# EAGLE library part MA3X2 (library 89S52mini)
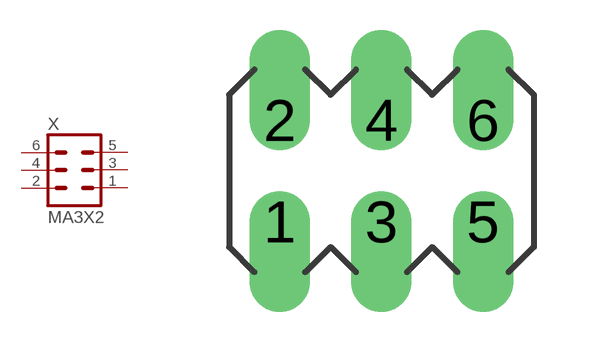
[diagram p0: symbol with the pads of MA3X2; footprint MA3X2]

Designator prefix X

## MA3X2  [MA3X2]
1  1  pas
2  2  pas
3  3  pas
4  4  pas
5  5  pas
6  6  pas

## Footprint MA3X2 (pad centres in mm)
drill 1 pad 1.422 offset: 1 -2.54,-1.27; 2 -2.54,1.27; 3 0,-1.27; 4 0,1.27; 5 2.54,-1.27; 6 2.54,1.27